# EAGLE library part CEM3320 (library CEM)
CEM 3330 VCF
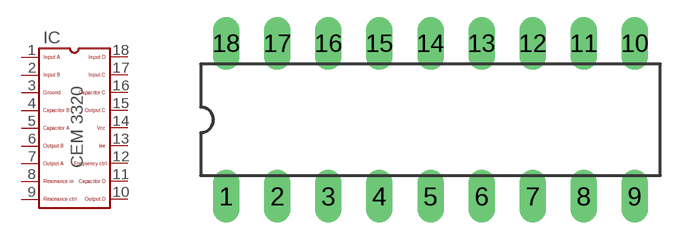
[diagram p2: symbol with the pads of DIL18; footprint DIL18]

Designator prefix IC

## CEM3320  [DIL18]
1  1  in
2  2  in
3  3  pwr
4  4
5  5
6  6  out
7  7  out
8  8  in
9  9  in
10  10  out
11  11  out
12  12
13  13  pwr
14  14  pwr
15  15  out
16  16
17  17  in
18  18  in

## Footprint DIL18 (pad centres in mm)
Dual In Line 18
drill 0.813 long: 1 -10.16,-3.81; 2 -7.62,-3.81; 3 -5.08,-3.81; 4 -2.54,-3.81; 5 0,-3.81; 6 2.54,-3.81; 7 5.08,-3.81; 8 7.62,-3.81; 9 10.16,-3.81; 10 10.16,3.81; 11 7.62,3.81; 12 5.08,3.81; 13 2.54,3.81; 14 0,3.81; 15 -2.54,3.81; 16 -5.08,3.81; 17 -7.62,3.81; 18 -10.16,3.81